# EAGLE library part LPC4357JET256 (library nxp_60_1_1)
32-bit ARM Cortex-M4/M0 MCU; up to 1 MB flash and 136 kB SRAM; Ethernet, two High-speed USB, LCD, EMC The LPC435x/3x/2x/1x are ARM Cortex-M4 based microcontrollers for embedded applications which include an ARM Cortex-M0 coprocessor, up to 1 MB of flash and 136 kB of on-chip SRAM, 16 kB of EEPROM memory, a quad SPI Flash Interface (SPIFI), advanced configurable peripherals such as the State Configurable Timer (SCT) and the Serial General Purpose I/O (SGPIO) interface, two High-speed USB controllers, Ethernet, LCD, an external memory controller, and multiple digital and analog peripherals. The LPC435x/3x/2x/1x operate at CPU frequencies of up to 204 MHz. The ARM Cortex-M4 is a next generation 32-bit core that offers system enhancements such as low power consumption, enhanced debug features, and a high level of support block integration. The ARM Cortex-M4 CPU incorporates a 3-stage pipeline, uses a Harvard architecture with separate local instruction and data buses as well as a third bus for peripherals, and includes an internal prefetch unit that supports speculative branching. The ARM Cortex-M4 supports single-cycle digital signal processing and SIMD instructions. A hardware floating-point unit is integrated in the core. The ARM Cortex-M0 coprocessor is an energy-efficient and easy-to-use 32-bit core which is upward code- and tool-compatible with the Cortex-M4 core. The Cortex-M0 coprocessor, designed as a replacement for existing 8/16-bit microcontrollers, offers up to 204 MHz performance with a simple instruction set and reduced code size. AAL Eindhoven MK
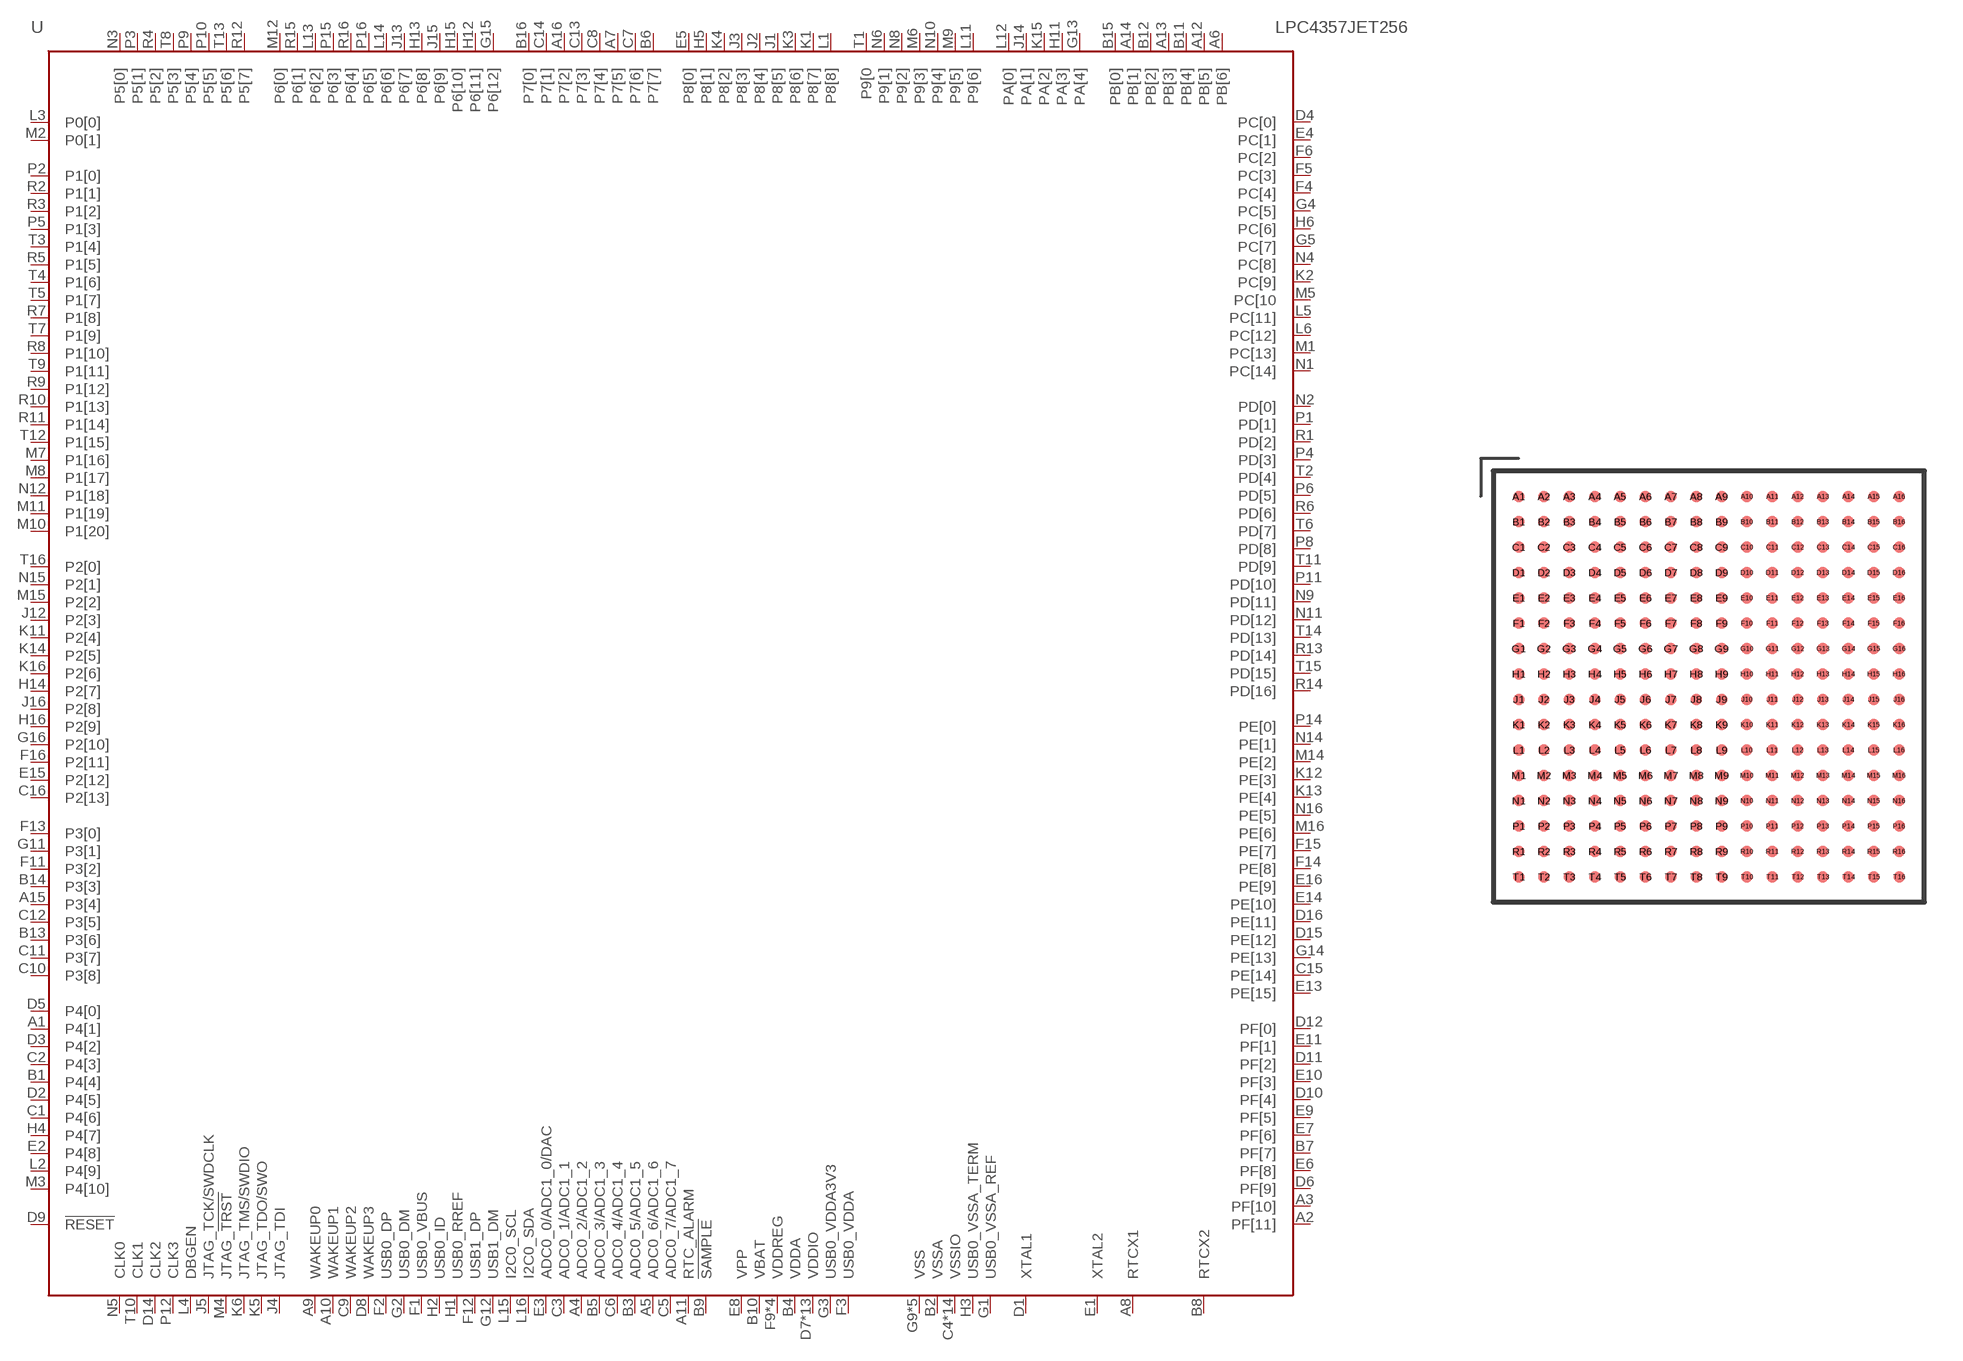
[diagram p148: symbol with the pads of SOT740-2; footprint SOT740-2]

Designator prefix U

## LPC4357JET256  [SOT740-2]
A1  P4[1]
A2  PF[11]
A3  PF[10]
A4  ADC0_2/ADC1_2  in
A5  ADC0_6/ADC1_6  in
A6  PB[6]
A7  P7[5]
A8  RTCX1  in
A9  WAKEUP0  in
A10  WAKEUP1  in
A11  RTC_ALARM  out
A12  PB[5]
A13  PB[3]
A14  PB[1]
A15  P3[4]
A16  P7[2]
B1  P4[4]
B2  VSSA  pwr
B3  ADC0_5/ADC1_5  in
B4  VDDA  pwr
B5  ADC0_3/ADC1_3  in
B6  P7[7]
B7  PF[7]
B8  RTCX2  out
B9  !SAMPLE  out
B10  VBAT  pwr
B11  PB[4]
B12  PB[2]
B13  P3[6]
B14  P3[3]
B15  PB[0]
B16  P7[0]
C1  P4[6]
C2  P4[3]
C3  ADC0_1/ADC1_1  in
C4  VSSIO  pwr
C5  ADC0_7/ADC1_7  in
C6  ADC0_4/ADC1_4  in
C7  P7[6]
C8  P7[4]
C9  WAKEUP2  in
C10  P3[8]
C11  P3[7]
C12  P3[5]
C13  P7[3]
C14  P7[1]
C15  PE[14]
C16  P2[13]
D1  XTAL1  in
D2  P4[5]
D3  P4[2]
D4  PC[0]
D5  P4[0]
D6  PF[9]
D7  VDDIO  pwr
D8  WAKEUP3  in
D9  !RESET!  in
D10  PF[4]
D11  PF[2]
D12  PF[0]
D13  VSSIO  pwr
D14  CLK2
D15  PE[12]
D16  PE[11]
E1  XTAL2  out
E2  P4[8]
E3  ADC0_0/ADC1_0/DAC  in
E4  PC[1]
E5  P8[0]
E6  PF[8]
E7  PF[6]
E8  VPP  pwr
E9  PF[5]
E10  PF[3]
E11  PF[1]
E12  VDDIO  pwr
E13  PE[15]
E14  PE[10]
E15  P2[12]
E16  PE[9]
F1  USB0_VBUS
F2  USB0_DP
F3  USB0_VDDA  pwr
F4  PC[4]
F5  PC[3]
F6  PC[2]
F7  VDDIO  pwr
F8  VDDIO  pwr
F9  VDDREG  pwr
F10  VDDREG  pwr
F11  P3[2]
F12  USB1_DP
F13  P3[0]
F14  PE[8]
F15  PE[7]
F16  P2[11]
G1  USB0_VSSA_REF  pwr
G2  USB0_DM
G3  USB0_VDDA3V3  pwr
G4  PC[5]
G5  PC[7]
G6  VSSIO  pwr
G7  VSSIO  pwr
G8  VSSIO  pwr
G9  VSS  pwr
G10  VDDIO  pwr
G11  P3[1]
G12  USB1_DM
G13  PA[4]
G14  PE[13]
G15  P6[12]
G16  P2[10]
H1  USB0_RREF  pas
H2  USB0_ID  in
H3  USB0_VSSA_TERM  pwr
H4  P4[7]
H5  P8[1]
H6  PC[6]
H7  VSS  pwr
H8  VSSIO  pwr
H9  VSSIO  pwr
H10  VDDIO  pwr
H11  PA[3]
H12  P6[11]
H13  P6[8]
H14  P2[7]
H15  P6[10]
H16  P2[9]
J1  P8[5]
J2  P8[4]
J3  P8[3]
J4  JTAG_TDI  in
J5  JTAG_TCK/SWDCLK  in
J6  VDDIO  pwr
J7  VDDIO  pwr
J8  VSSIO  pwr
J9  VSSIO  pwr
J10  VSS  pwr
J11  VSS  pwr
J12  P2[3]
J13  P6[7]
J14  PA[1]
J15  P6[9]
J16  P2[8]
K1  P8[7]
K2  PC[9]
K3  P8[6]
K4  P8[2]
K5  JTAG_TDO/SWO  out
K6  JTAG_TMS/SWDIO  in
K7  VDDIO  pwr
K8  VSS  pwr
K9  VSSIO  pwr
K10  VSSIO  pwr
K11  P2[4]
K12  PE[3]
K13  PE[4]
K14  P2[5]
K15  PA[2]
K16  P2[6]
L1  P8[8]
L2  P4[9]
L3  P0[0]
L4  DBGEN  in
L5  PC[11]
L6  PC[12]
L7  VDDREG  pwr
L8  VDDREG  pwr
L9  VDDIO  pwr
L10  VDDIO  pwr
L11  P9[6]
L12  PA[0]
L13  P6[2]
L14  P6[6]
L15  I2C0_SCL
L16  I2C0_SDA
M1  PC[13]
M2  P0[1]
M3  P4[10]
M4  JTAG_!TRST  in
M5  PC[10
M6  P9[3]
M7  P1[16]
M8  P1[17]
M9  P9[5]
M10  P1[20]
M11  P1[19]
M12  P6[0]
M13  VSSIO  pwr
M14  PE[2]
M15  P2[2]
M16  PE[6]
N1  PC[14]
N2  PD[0]
N3  P5[0]
N4  PC[8]
N5  CLK0
N6  P9[1]
N7  VDDIO  pwr
N8  P9[2]
N9  PD[11]
N10  P9[4]
N11  PD[12]
N12  P1[18]
N13  VDDIO  pwr
N14  PE[1]
N15  P2[1]
N16  PE[5]
P1  PD[1]
P2  P1[0]
P3  P5[1]
P4  PD[3]
P5  P1[3]
P6  PD[5]
P7  VSSIO  pwr
P8  PD[8]
P9  P5[4]
P10  P5[5]
P11  PD[10]
P12  CLK3
P13  VSSIO  pwr
P14  PE[0]
P15  P6[3]
P16  P6[5]
R1  PD[2]
R2  P1[1]
R3  P1[2]
R4  P5[2]
R5  P1[5]
R6  PD[6]
R7  P1[8]
R8  P1[10]
R9  P1[12]
R10  P1[13]
R11  P1[14]
R12  P5[7]
R13  PD[14]
R14  PD[16]
R15  P6[1]
R16  P6[4]
T1  P9[0
T2  PD[4]
T3  P1[4]
T4  P1[6]
T5  P1[7]
T6  PD[7]
T7  P1[9]
T8  P5[3]
T9  P1[11]
T10  CLK1
T11  PD[9]
T12  P1[15]
T13  P5[6]
T14  PD[13]
T15  PD[15]
T16  P2[0]

## Footprint SOT740-2 (pad centres in mm)
LBGA256 - Low Profile Ball Grid Array SOT740-2
smd 0.45 x 0.45: A1 -7.5,7.5; A2 -6.5,7.5; A3 -5.5,7.5; A4 -4.5,7.5; A5 -3.5,7.5; A6 -2.5,7.5; A7 -1.5,7.5; A8 -0.5,7.5; A9 0.5,7.5; A10 1.5,7.5; A11 2.5,7.5; A12 3.5,7.5; A13 4.5,7.5; A14 5.5,7.5; A15 6.5,7.5; A16 7.5,7.5; B1 -7.5,6.5; B2 -6.5,6.5; B3 -5.5,6.5; B4 -4.5,6.5; B5 -3.5,6.5; B6 -2.5,6.5; B7 -1.5,6.5; B8 -0.5,6.5; B9 0.5,6.5; B10 1.5,6.5; B11 2.5,6.5; B12 3.5,6.5; B13 4.5,6.5; B14 5.5,6.5; B15 6.5,6.5; B16 7.5,6.5; C1 -7.5,5.5; C2 -6.5,5.5; C3 -5.5,5.5; C4 -4.5,5.5; C5 -3.5,5.5; C6 -2.5,5.5; C7 -1.5,5.5; C8 -0.5,5.5; C9 0.5,5.5; C10 1.5,5.5; C11 2.5,5.5; C12 3.5,5.5; C13 4.5,5.5; C14 5.5,5.5; C15 6.5,5.5; C16 7.5,5.5; D1 -7.5,4.5; D2 -6.5,4.5; D3 -5.5,4.5; D4 -4.5,4.5; D5 -3.5,4.5; D6 -2.5,4.5; D7 -1.5,4.5; D8 -0.5,4.5; D9 0.5,4.5; D10 1.5,4.5; D11 2.5,4.5; D12 3.5,4.5; D13 4.5,4.5; D14 5.5,4.5; D15 6.5,4.5; D16 7.5,4.5; E1 -7.5,3.5; E2 -6.5,3.5; E3 -5.5,3.5; E4 -4.5,3.5; E5 -3.5,3.5; E6 -2.5,3.5; E7 -1.5,3.5; E8 -0.5,3.5; E9 0.5,3.5; E10 1.5,3.5; E11 2.5,3.5; E12 3.5,3.5; E13 4.5,3.5; E14 5.5,3.5; E15 6.5,3.5; E16 7.5,3.5; F1 -7.5,2.5; F2 -6.5,2.5; F3 -5.5,2.5; F4 -4.5,2.5; F5 -3.5,2.5; F6 -2.5,2.5; F7 -1.5,2.5; F8 -0.5,2.5; F9 0.5,2.5; F10 1.5,2.5; F11 2.5,2.5; F12 3.5,2.5; F13 4.5,2.5; F14 5.5,2.5; F15 6.5,2.5; F16 7.5,2.5; G1 -7.5,1.5; G2 -6.5,1.5; G3 -5.5,1.5; G4 -4.5,1.5; G5 -3.5,1.5; G6 -2.5,1.5; G7 -1.5,1.5; G8 -0.5,1.5; G9 0.5,1.5; G10 1.5,1.5; G11 2.5,1.5; G12 3.5,1.5; G13 4.5,1.5; G14 5.5,1.5; G15 6.5,1.5; G16 7.5,1.5; H1 -7.5,0.5; H2 -6.5,0.5; H3 -5.5,0.5; H4 -4.5,0.5; H5 -3.5,0.5; H6 -2.5,0.5; H7 -1.5,0.5; H8 -0.5,0.5; H9 0.5,0.5; H10 1.5,0.5; H11 2.5,0.5; H12 3.5,0.5; H13 4.5,0.5; H14 5.5,0.5; H15 6.5,0.5; H16 7.5,0.5; J1 -7.5,-0.5; J2 -6.5,-0.5; J3 -5.5,-0.5; J4 -4.5,-0.5; J5 -3.5,-0.5; J6 -2.5,-0.5; J7 -1.5,-0.5; J8 -0.5,-0.5; J9 0.5,-0.5; J10 1.5,-0.5; J11 2.5,-0.5; J12 3.5,-0.5; J13 4.5,-0.5; J14 5.5,-0.5; J15 6.5,-0.5; J16 7.5,-0.5; K1 -7.5,-1.5; K2 -6.5,-1.5; K3 -5.5,-1.5; K4 -4.5,-1.5; K5 -3.5,-1.5; K6 -2.5,-1.5; K7 -1.5,-1.5; K8 -0.5,-1.5; K9 0.5,-1.5; K10 1.5,-1.5; K11 2.5,-1.5; K12 3.5,-1.5; K13 4.5,-1.5; K14 5.5,-1.5; K15 6.5,-1.5; K16 7.5,-1.5; L1 -7.5,-2.5; L2 -6.5,-2.5; L3 -5.5,-2.5; L4 -4.5,-2.5; L5 -3.5,-2.5; L6 -2.5,-2.5; L7 -1.5,-2.5; L8 -0.5,-2.5; L9 0.5,-2.5; L10 1.5,-2.5; L11 2.5,-2.5; L12 3.5,-2.5; L13 4.5,-2.5; L14 5.5,-2.5; L15 6.5,-2.5; L16 7.5,-2.5; M1 -7.5,-3.5; M2 -6.5,-3.5; M3 -5.5,-3.5; M4 -4.5,-3.5; M5 -3.5,-3.5; M6 -2.5,-3.5; M7 -1.5,-3.5; M8 -0.5,-3.5; M9 0.5,-3.5; M10 1.5,-3.5; M11 2.5,-3.5; M12 3.5,-3.5; M13 4.5,-3.5; M14 5.5,-3.5; M15 6.5,-3.5; M16 7.5,-3.5; N1 -7.5,-4.5; N2 -6.5,-4.5; N3 -5.5,-4.5; N4 -4.5,-4.5; N5 -3.5,-4.5; N6 -2.5,-4.5; N7 -1.5,-4.5; N8 -0.5,-4.5; N9 0.5,-4.5; N10 1.5,-4.5; N11 2.5,-4.5; N12 3.5,-4.5; N13 4.5,-4.5; N14 5.5,-4.5; N15 6.5,-4.5; N16 7.5,-4.5; P1 -7.5,-5.5; P2 -6.5,-5.5; P3 -5.5,-5.5; P4 -4.5,-5.5; P5 -3.5,-5.5; P6 -2.5,-5.5; P7 -1.5,-5.5; P8 -0.5,-5.5; P9 0.5,-5.5; P10 1.5,-5.5; P11 2.5,-5.5; P12 3.5,-5.5; P13 4.5,-5.5; P14 5.5,-5.5; P15 6.5,-5.5; P16 7.5,-5.5; R1 -7.5,-6.5; R2 -6.5,-6.5; R3 -5.5,-6.5; R4 -4.5,-6.5; R5 -3.5,-6.5; R6 -2.5,-6.5; R7 -1.5,-6.5; R8 -0.5,-6.5; R9 0.5,-6.5; R10 1.5,-6.5; R11 2.5,-6.5; R12 3.5,-6.5; R13 4.5,-6.5; R14 5.5,-6.5; R15 6.5,-6.5; R16 7.5,-6.5; T1 -7.5,-7.5; T2 -6.5,-7.5; T3 -5.5,-7.5; T4 -4.5,-7.5; T5 -3.5,-7.5; T6 -2.5,-7.5; T7 -1.5,-7.5; T8 -0.5,-7.5; T9 0.5,-7.5; T10 1.5,-7.5; T11 2.5,-7.5; T12 3.5,-7.5; T13 4.5,-7.5; T14 5.5,-7.5; T15 6.5,-7.5; T16 7.5,-7.5